# EAGLE library part AOZ1282 (library ic-AlphaOmega)
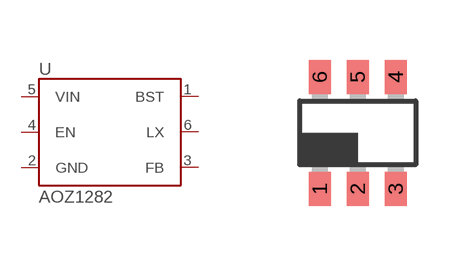
[diagram p0: symbol with the pads of SOT23-6; footprint SOT23-6]

Designator prefix U

## AOZ1282  [SOT23-6]
1  BST
2  GND
3  FB
4  EN
5  VIN
6  LX

## Footprint SOT23-6 (pad centres in mm)
smd 0.55 x 0.85: 1 -0.95,-1.4; 2 0,-1.4; 3 0.95,-1.4; 4 0.95,1.4; 5 0,1.4; 6 -0.95,1.4